# Altium schematic symbol library Theremin.SchLib: 50 symbols
Pins are listed as number, name and electrical type; pins without a type are passive.

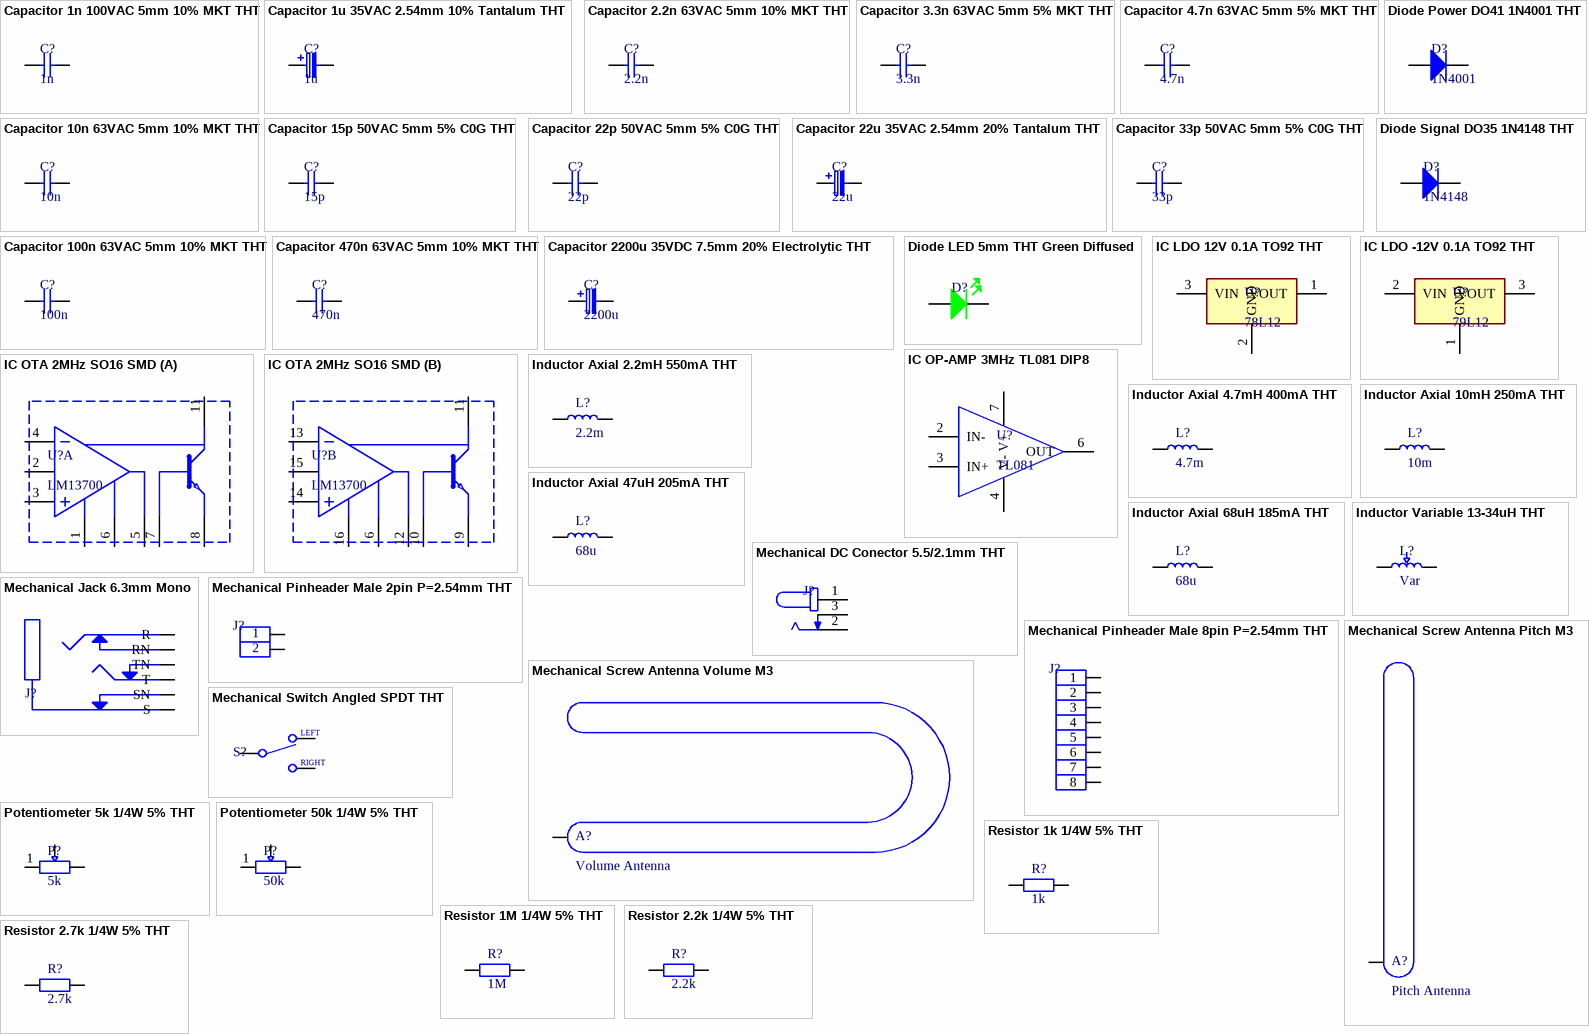
[diagram p0: symbols Capacitor 1n 100VAC 5mm 10% MKT THT to Resistor 2.7k 1/4W 5% THT]

## Capacitor 1n 100VAC 5mm 10% MKT THT
designator C?, comment 1n
Capacitor: polyester; 1nF; 63VAC; 100VDC; 5mm; ±10%; 7.2x2.5x6.5mm; MPN: R82EC1100DQ50K; Supplier: TME; Package: Capacitor 7.2x3.5x6.5mm; ComponentLink1Description: TME; ComponentLink1URL: https://www.tme.eu/pl/en/details/r82ec1100dq50k/tht-film-capacitors/kemet/; ComponentLink2Description: Datasheet; ComponentLink2URL: https://www.tme.eu/Document/8279ba60e40a85f8e396f800f0d02c79/Datasheet-R82EC1100DQ50K.pdf
footprint Capacitor 7.2x3.5x6.5mm
pins: 1, 2

## Capacitor 1u 35VAC 2.54mm 10% Tantalum THT
designator C?, comment 1u
Capacitor: tantalum; 1uF; 35VDC; THT; ±20%; -55÷85°C; 2.54mm; MPN: TC-1/35; Supplier: TME; Package: Capacitor Tantalum; ComponentLink1Description: TME; ComponentLink1URL: https://www.tme.eu/pl/en/details/tc-1_35/tht-tantalum-capacitors/sr-passives/; ComponentLink2Description: Datasheet; ComponentLink2URL: https://www.tme.eu/Document/bf051ef301f23e46aec8e57514aaa972/TC%20series.pdf
footprint Capacitor Tantalum 5.08mm
pins: 1, 2

## Capacitor 2.2n 63VAC 5mm 10% MKT THT
designator C?, comment 2.2n
Capacitor: polyester; 2.2nF; 63VAC; 100VDC; 5mm; ±10%; -55÷105°C; MPN: R82EC1220DQ50K; Supplier: TME; Package: Capacitor 7.2x3.5x6.5mm; ComponentLink1Description: TME; ComponentLink1URL: https://www.tme.eu/pl/en/details/mc5-2n2/tht-film-capacitors/kemet/r82ec1220dq50k/; ComponentLink2Description: Datasheet; ComponentLink2URL: https://www.tme.eu/Document/3a484b0e6621be75ef1153478ce25df0/R82EC1220DQ50K.pdf
footprint Capacitor 7.2x3.5x6.5mm
pins: 1, 2

## Capacitor 3.3n 63VAC 5mm 5% MKT THT
designator C?, comment 3.3n
Capacitor: polyester; 3.3nF; 63VAC; 100VDC; 5mm; ±5%; 7.2x2.5x6.5mm; MPN: R82EC1330DQ50J; Supplier: TME; Package: Capacitor 7.2x3.5x6.5mm; ComponentLink1Description: TME; ComponentLink1URL: https://www.tme.eu/pl/en/details/r82ec1330dq50j/tht-film-capacitors/kemet/; ComponentLink2Description: Datasheet; ComponentLink2URL: https://www.tme.eu/Document/4bebc873973008b4c7aff8be17e5b896/Datasheet-R82EC1330DQ50J.pdf
footprint Capacitor 7.2x3.5x6.5mm
pins: 1, 2

## Capacitor 4.7n 63VAC 5mm 5% MKT THT
designator C?, comment 4.7n
Capacitor: polyester; 4.7nF; 63VAC; 100VDC; 5mm; ±10%; -55÷105°C; MPN: R82EC1470DQ50K; Supplier: TME; Package: Capacitor 7.2x3.5x6.5mm; ComponentLink1Description: TME; ComponentLink1URL: https://www.tme.eu/pl/en/details/r82ec1470dq50k/tht-film-capacitors/kemet/; ComponentLink2Description: Datasheet; ComponentLink2URL: https://www.tme.eu/Document/9d3537aef72e8ccc93f83dd784419bb5/Datasheet-R82EC1470DQ50K.pdf
footprint Capacitor 7.2x3.5x6.5mm
pins: 1, 2

## Capacitor 10n 63VAC 5mm 10% MKT THT
designator C?, comment 10n
Capacitor: polyester; 0.01uF; 63VAC; 100VDC; 5mm; ±10%; -55÷125°C; MPN: B32529C1103K289; Supplier: TME; Package: Capacitor 7.2x3.5x6.5mm; ComponentLink1Description: TME; ComponentLink1URL: https://www.tme.eu/pl/en/details/b32529c1103k289/tht-film-capacitors/epcos/; ComponentLink2Description: Datasheet; ComponentLink2URL: https://www.tme.eu/Document/3f797a4cbbe02b90e3e2061c5fb4dda0/B32520_529.pdf
footprint Capacitor 7.2x3.5x6.5mm
pins: 1, 2

## Capacitor 15p 50VAC 5mm 5% C0G THT
designator C?, comment 15p
Capacitor: ceramic; 15pF; 50V; C0G (NP0); ±5%; THT; 5mm; MPN: RDE5C1H150J0M1H03A; Supplier: TME; Package: Capacitor Ceramic; ComponentLink1Description: TME; ComponentLink1URL: https://www.tme.eu/pl/en/details/rde5c1h150j0m1h03a/mlcc-tht-capacitors/murata/; ComponentLink2Description: Datasheet; ComponentLink2URL: https://www.tme.eu/Document/2ff66c99fa6fcc1468aea77d2cec1eda/RDE.pdf
footprint Capacitor Ceramic
pins: 1, 2

## Capacitor 22p 50VAC 5mm 5% C0G THT
designator C?, comment 22p
Capacitor: ceramic; 22pF; 50V; C0G (NP0); ±5%; THT; 5mm; MPN: CT40805N220J500F3R; Supplier: TME; Package: Capacitor Ceramic; ComponentLink1Description: TME; ComponentLink1URL: https://www.tme.eu/pl/en/details/cct-22p_50v/mlcc-tht-capacitors/sr-passives/ct40805n220j500f3r/; ComponentLink2Description: Datasheet; ComponentLink2URL: https://www.tme.eu/Document/fa2074634c56a5d5a400b3d58e933b6f/CCT.pdf
footprint Capacitor Ceramic
pins: 1, 2

## Capacitor 22u 35VAC 2.54mm 20% Tantalum THT
designator C?, comment 22u
Capacitor: tantalum; 22uF; 35VDC; THT; ±20%; -55÷85°C; 5.08mm; MPN: TC-22/35; Supplier: TME; Package: Capacitor Tantalum 5.08mm; ComponentLink1Description: TME; ComponentLink1URL: https://www.tme.eu/pl/en/details/tc-22_35/tht-tantalum-capacitors/sr-passives/; ComponentLink2Description: Datasheet; ComponentLink2URL: https://www.tme.eu/Document/bf051ef301f23e46aec8e57514aaa972/TC%20series.pdf
footprint Capacitor Tantalum 5.08mm
pins: 1, 2

## Capacitor 33p 50VAC 5mm 5% C0G THT
designator C?, comment 33p
Capacitor: ceramic; 33pF; 50V; C0G (NP0); ±5%; THT; 5mm; MPN: CT40805N330J500F3R; Supplier: TME; Package: Capacitor Ceramic; ComponentLink1Description: TME; ComponentLink1URL: https://www.tme.eu/pl/en/details/cct-33p_50v/mlcc-tht-capacitors/sr-passives/ct40805n330j500f3r/; ComponentLink2Description: Datasheet; ComponentLink2URL: https://www.tme.eu/Document/fa2074634c56a5d5a400b3d58e933b6f/CCT.pdf
footprint Capacitor Ceramic
pins: 1, 2

## Capacitor 100n 63VAC 5mm 10% MKT THT
designator C?, comment 100n
Capacitor: polyester; 100nF; 63VAC; 100VDC; 5mm; ±10%; -55÷100°C; MPN: MKS2D031001A00KSSD; Supplier: TME; Package: Capacitor 7.2x3.5x6.5mm; ComponentLink1Description: TME; ComponentLink1URL: https://www.tme.eu/pl/en/details/mks2-100n_100/tht-film-capacitors/wima/mks2d031001a00kssd/; ComponentLink2Description: Datasheet; ComponentLink2URL: https://www.tme.eu/Document/a1d7ff07b330f8f08de986bd168d8c92/WIMA_MKS_2.pdf
footprint Capacitor 7.2x3.5x6.5mm
pins: 1, 2

## Capacitor 470n 63VAC 5mm 10% MKT THT
designator C?, comment 470n
Capacitor: polyester; 470nF; 40VAC; 63VDC; 5mm; ±10%; 7.2x3.5x6.5mm; MPN: R82DC3470DQ60K; Supplier: TME; Package: Capacitor 7.2x3.5x6.5mm; ComponentLink1Description: TME; ComponentLink1URL: https://www.tme.eu/pl/en/details/r82dc3470dq60k/tht-film-capacitors/kemet/; ComponentLink2Description: Datasheet; ComponentLink2URL: https://www.tme.eu/Document/f9e14cfc4b971fc2817c26fd8f4fc9f4/Datasheet-R82DC3470DQ60K.pdf
footprint Capacitor 7.2x3.5x6.5mm
pins: 1, 2

## Capacitor 2200u 35VDC 7.5mm 20% Electrolytic THT
designator C?, comment 2200u
Capacitor: electrolytic; THT; 2200uF; 35VDC; Ø16x25mm; Pitch: 7.5mm; MPN: EWH1VM222L25OT; Supplier: TME; Package: Capacitor Electrolytic 16x25mm; ComponentLink1Description: TME; ComponentLink1URL: https://www.tme.eu/pl/en/details/ce-2200_35pht-y/tht-electrolytic-capacitors/aishi/ewh1vm222l25ot/; ComponentLink2Description: Datasheet; ComponentLink2URL: https://www.tme.eu/Document/d4ed5160d67f7d07e14b13c551409f2c/WH-series.pdf
footprint Capacitor Electrolytic 16x25mm
pins: 1, 2

## Diode LED 5mm THT Green Diffused
designator D?, comment Green  (value not drawn)
LED; 5mm; green; 150÷350mcd; 45°; 1.9÷2.4V; No.of term: 2; -40÷85°C; MPN: N0G02L47; Supplier: TME; Package: LED 5mm; ComponentLink1Description: TME; ComponentLink1URL: https://www.tme.eu/pl/en/details/n0g02l47/tht-leds-round/brightek-europe/; ComponentLink2Description: Datasheet; ComponentLink2URL: https://www.tme.eu/Document/d4dc47f49ec801a892b442bf96adea2e/N0G02L47.pdf
footprint LED 5mm
pins: 1, 2

## Diode Power DO41 1N4001 THT
designator D?, comment 1N4001
Diode: rectifying; THT; 50V; 1A; Ammo Pack; Ifsm: 30A; DO41; Supplier: TME; MPN: 1N4001; Package: DO-41; ComponentLink1Description: TME; ComponentLink1URL: https://www.tme.eu/pl/en/details/1n4001-cdi/tht-universal-diodes/cdil/1n4001/; ComponentLink2Description: Datasheet; ComponentLink2URL: https://www.tme.eu/Document/8a0c0b7e643996c9a2ecfdce46dc9310/1n4001_7.pdf
footprint DO41
pins: 1, 2

## Diode Signal DO35 1N4148 THT
designator D?, comment 1N4148
Diode: switching; THT; 100V; 0.2A; Ammo Pack; Ifsm: 4A; DO35; 500mW; Supplier: TME; MPN: 1N4148; Package: DO-35; ComponentLink1Description: TME; ComponentLink1URL: https://www.tme.eu/pl/en/details/1n4148-dio/tht-universal-diodes/diotec-semiconductor/1n4148/; ComponentLink2Description: Datasheet; ComponentLink2URL: https://www.tme.eu/Document/c6f6445616a0da67965224a113dd79b5/1n4148.pdf
footprint DO35
pins: 1, 2

## IC LDO 12V 0.1A TO92 THT
designator U?, comment 78L12
IC: voltage regulator; linear,fixed; 12V; 0.1A; TO92; THT; bulk; MPN: MC78L12ACPG; Supplier: TME; Package: TO-92; ComponentLink1Description: TME; ComponentLink1URL: https://www.tme.eu/pl/en/details/mc78l12acpg/unregulated-voltage-regulators/onsemi/; ComponentLink2Description: Datasheet; ComponentLink2URL: https://www.tme.eu/Document/a8a1241ebb79c81cfad04f65b61400f5/MC78LxxA_NCV78LxxA.PDF
footprint TO-92
pins: 1 VOUT, 2 GND, 3 VIN

## IC LDO -12V 0.1A TO92 THT
designator U?, comment 79L12
IC: voltage regulator; linear,fixed; -12V; 0.1A; TO92; THT; bulk; MPN: MC79L12ACPG; Supplier: TME; Package: TO-92; ComponentLink1Description: TME; ComponentLink1URL: https://www.tme.eu/pl/en/details/mc79l12acpg/unregulated-voltage-regulators/onsemi/; ComponentLink2Description: Datasheet; ComponentLink2URL: https://www.tme.eu/Document/da4ea255632af3160227aa919f13c59f/MC79L00A.PDF
footprint TO-92
pins: 1 GND, 2 VIN, 3 VOUT

## IC OP-AMP 3MHz TL081 DIP8
designator U?, comment TL081
IC: operational amplifier; 3MHz; Ch: 1; DIP8; ±5÷15VDC; tube; MPN: TL081IP; Supplier: TME; Package: DIP-8; ComponentLink1Description: TME; ComponentLink1URL: https://www.tme.eu/pl/en/details/tl081ip/tht-operational-amplifiers/texas-instruments/; ComponentLink2Description: Datasheet; ComponentLink2URL: https://www.st.com/resource/en/datasheet/tl081.pdf
footprint DIP-8
pins: 2 IN-, 3 IN+, 4 V-, 6 OUT, 7 V+

## IC OTA 2MHz SO16 SMD
designator U?, comment LM13700
IC: operational amplifier; 2MHz; Ch: 2; SO16;; MPN: LM13700MX/NOPB; Supplier: TME; Package: SO-16; ComponentLink1Description: TME; ComponentLink1URL: https://www.tme.eu/pl/en/details/lm13700mx_nopb/smd-operational-amplifiers/texas-instruments/; ComponentLink2Description: Datasheet; ComponentLink2URL: https://www.ti.com/lit/gpn/lm13700
footprint SO-16
part A pins: 1 BIAS AMP, 2 BIAS DIODE, 3 +, 4 -, 5 OUTPUT, 6 V-, 7 BUFFER IN, 8 BUFFER OUT, 11 V+
part B pins: 6 V-, 9 BUFFER OUT, 10 BUFFER IN, 11 V+, 12 OUTPUT, 13 -, 14 +, 15 BIAS DIODE, 16 BIAS AMP

## Inductor Axial 2.2mH 550mA THT
designator L?, comment 2.2m
Inductor: wire; THT; 2.2mH; Ioper: 550mA; 3.5Ω; ±10%; Ø11.5x11.5mm; MPN: COIL1010-2.2; Supplier: TME; Package: Inductor 11.5x11.5; ComponentLink1Description: TME; ComponentLink1URL: https://www.tme.eu/pl/en/details/coil1010-2.2/vertical-inductors/ferrocore/; ComponentLink2Description: Datasheet; ComponentLink2URL: https://www.tme.eu/Document/6a7075a9f3d9071c6798a7b1b2ed519f/COIL1010-2.2.pdf
footprint Inductor 11.5x11.5
pins: 1, 2

## Inductor Axial 4.7mH 400mA THT
designator L?, comment 4.7m
Inductor: wire; THT; 4.7mH; Ioper: 400mA; 6Ω; ±10%; Ø11.5x11.5mm; MPN: COIL1010-4.7; Supplier: TME; Package: Inductor 11.5x11.5; ComponentLink1Description: TME; ComponentLink1URL: https://www.tme.eu/pl/en/details/coil1010-4.7/vertical-inductors/ferrocore/; ComponentLink2Description: Datasheet; ComponentLink2URL: https://www.tme.eu/Document/ea6622b2319f67b3f9813ba7d6b98bb4/COIL1010-4.7.pdf
footprint Inductor 11.5x11.5
pins: 1, 2

## Inductor Axial 10mH 250mA THT
designator L?, comment 10m
Inductor: wire; THT; 10mH; Ioper: 250mA; 14.6Ω; ±10%; Ø11.5x11.5mm; MPN: COIL1010-10; Supplier: TME; Package: Inductor 11.5x11.5; ComponentLink1Description: TME; ComponentLink1URL: https://www.tme.eu/pl/en/details/coil1010-10/vertical-inductors/ferrocore/; ComponentLink2Description: Datasheet; ComponentLink2URL: https://www.tme.eu/Document/a3ef0c8e49e99149fdccea630d52d5e9/COIL1010-10.pdf
footprint Inductor 11.5x11.5
pins: 1, 2

## Inductor Axial 47uH 205mA THT
designator L?, comment 68u
Inductor: axial; THT; 47uH; 205mA; 2.3Ω; Ø3x8mm; MPN: DLA47-N; Supplier: TME; Package: Inductor Axial; ComponentLink1Description: TME; ComponentLink1URL: https://www.tme.eu/pl/en/details/dla47-n/axial-inductors/ferrocore/; ComponentLink2Description: Datasheet; ComponentLink2URL: https://www.tme.eu/Document/9d377c1aa3fb18bfc9d945d5bc61a17d/DLA_a.pdf
footprint Inductor Axial
pins: 1, 2

## Inductor Axial 68uH 185mA THT
designator L?, comment 68u
Inductor: axial; THT; 68uH; 185mA; 3.2Ω; Ø3x8mm; MPN: DLA68-N; Supplier: TME; Package: Inductor Axial; ComponentLink1Description: TME; ComponentLink1URL: https://www.tme.eu/pl/en/details/dla68-n/axial-inductors/ferrocore/; ComponentLink2Description: Datasheet; ComponentLink2URL: https://www.tme.eu/Document/9d377c1aa3fb18bfc9d945d5bc61a17d/DLA_a.pdf
footprint Inductor Axial
pins: 1, 2

## Inductor Variable 13-34uH THT
designator L?, comment Var
10pcs 50T 13uh-34uH Adjustable High-Frequency Ferrite Core Inductor Adjustable Tools; Supplier: Aliexpress; MPN: 50T 13uh-34uH; Package: Inductor Variable; ComponentLink1Description: TME; ComponentLink1URL: https://www.aliexpress.com/item/1005006270702263.html?spm=a2g0o.detail.pcDetailTopMoreOtherSeller.2.1643C9ZPC9ZPRj&gps-id=pcDetailTopMoreOtherSeller&scm=1007.40050.354490.0&scm_id=1007.40050.354490.0&scm-url=1007.40050.354490.0&pvid=d581bdb9-6c7a-4b34-acbb-bb23191a4599&_t=gps-id%3ApcDetailTopMoreOtherSeller%2Cscm-url%3A1007.40050.354490.0%2Cpvid%3Ad581bdb9-6c7a-4b34-acbb-bb23191a4599%2Ctpp_buckets%3A668%232846%238114%231999&pdp_npi=4%40dis%21PLN%2114.92%2114.92%21%21%213.63%213.63%21%402103835c17200115452615440e62f8%2112000036547480925%21rec%21PL%212048866767%21&utparam-url=scene%3ApcDetailTopMoreOtherSeller%7Cquery_from%3A; ComponentLink2Description: Datasheet; ComponentLink2URL: https://www.aliexpress.com/item/1005003388187155.html?spm=a2g0o.detail.pcDetailBottomMoreOtherSeller.18.5314Fwk8Fwk8NR&gps-id=pcDetailBottomMoreOtherSeller&scm=1007.40050.354490.0&scm_id=1007.40050.354490.0&scm-url=1007.40050.354490.0&pvid=505bda8a-ca01-4575-9f04-1e1694ae9eac&_t=gps-id:pcDetailBottomMoreOtherSeller,scm-url:1007.40050.354490.0,pvid:505bda8a-ca01-4575-9f04-1e1694ae9eac,tpp_buckets:668%232846%238109%231935&pdp_npi=4%40dis%21PLN%2110.65%2110.64%21%21%2118.93%2118.92%21%402101fb1417200120873824499ee372%2112000031929978882%21rec%21PL%212048866767%21&utparam-url=scene%3ApcDetailBottomMoreOtherSeller%7Cquery_from%3A
footprint Inductor Variable
pins: 1, 2

## Mechanical DC Conector 5.5/2.1mm THT
designator J?, comment PC-GK2.1  (value not drawn)
Socket; DC supply; male; 5.5/2.1mm; 5.5mm; 2.1mm; THT; angled 90°; ComponentLink1Description: TME; ComponentLink1URL: https://www.tme.eu/pl/en/details/pc-gk2.1/dc-power-connectors/ninigi/; Supplier: TME; MPN: PC-GK2.1; Package: DC Supply THT; ComponentLink2Description: Datasheet; ComponentLink2URL: https://www.tme.eu/Document/78afd4fb8a41e4211137cd818ea9e93d/PC-GK21.jpg
footprint DC Supply THT
pins: 1, 2, 3

## Mechanical Jack 6.3mm Mono
designator J?, comment JC-211  (value not drawn)
Socket; Jack 6,3mm; female; mono; ways: 2; for panel mounting; THT; ComponentLink1Description: TME; ComponentLink1URL: https://www.tme.eu/pl/en/details/jc-211/jack-connectors/ninigi/; Supplier: TME; MPN: JC-211; Package: Jack 6.3mm PCB; ComponentLink2Description: Datasheet; ComponentLink2URL: https://www.tme.eu/html/EN/connector-jack-6-3mm-socket/ramka_770_EN_pelny.html
footprint Jack 6.3mm PCB
pins: 1 S, 2 R, 3 T, 4 TN, 5 RN, 6 SN

## Mechanical Pinheader Male 2pin P=2.54mm THT
designator J?, comment 2 PIN  (value not drawn)
Pin header; pin strips; BERGSTIK; male; PIN: 2; straight; 2.54mm; MPN: 77311-101-02LF; ComponentLink1Description: TME; ComponentLink1URL: https://www.tme.eu/pl/en/details/77311-101-02lf/pin-headers/amphenol-communications-solutions/; Supplier: TME; Package: Goldpin 2P; ComponentLink2Description: Datasheet; ComponentLink2URL: https://www.tme.eu/Document/cf95c6ed476410c00a081c8ff424e335/77311-101-01LF.pdf
footprint Goldpin 2P
pins: 1, 2

## Mechanical Pinheader Male 8pin P=2.54mm THT
designator J?, comment 8 PIN  (value not drawn)
Pin header; pin strips; male; PIN: 8; straight; 2.54mm; THT; 1x8; MPN: DS1021-1*8SF11-B; ComponentLink1Description: TME; ComponentLink1URL: https://www.tme.eu/pl/en/details/zl201-08g/pin-headers/connfly/ds1021-1-8sf11-b/; Supplier: TME; Package: Goldpin 8P; ComponentLink2Description: Datasheet; ComponentLink2URL: https://www.tme.eu/Document/cc301e58a5da78cb543a94b5a5b7f06a/DS1021.pdf
footprint Goldpin 8P
pins: 1, 2, 3, 4, 5, 6, 7, 8

## Mechanical Screw Antenna Pitch M3
designator A?, comment Pitch Antenna
Supplier: *; MPN: *; Package: *; ComponentLink1Description: TME; ComponentLink1URL: *; ComponentLink2Description: Datasheet; ComponentLink2URL: *
footprint HOLE M3
pins: 1

## Mechanical Screw Antenna Volume M3
designator A?, comment Volume Antenna
Supplier: *; MPN: *; Package: *; ComponentLink1Description: TME; ComponentLink1URL: *; ComponentLink2Description: Datasheet; ComponentLink2URL: *
footprint HOLE M3
pins: 1

## Mechanical Switch Angled SPDT THT
designator S?, comment ON-ON  (value not drawn)
Switch: toggle; Pos: 2; SPDT; ON-ON; 0.4A/28VDC; -30÷85°C; 20mΩ; MPN: SKS06LP; ComponentLink1Description: TME; ComponentLink1URL: https://www.tme.eu/pl/en/details/sks06lp/toggle-switches/salecom-electronics/; Supplier: TME; Package: Switch Angled; ComponentLink2Description: Datasheet; ComponentLink2URL: https://www.tme.eu/html/EN/toggle-switches-sks-series/ramka_1363_EN_pelny.html
footprint Switch Angled
pins: 1, 2, 3
text: LEFT; RIGHT

## Potentiometer 5k 1/4W 5% THT
designator P?, comment 5k
Potentiometer: shaft; single turn; 5kΩ; 125mW; ±20%; THT; 6mm; metal; MPN: R16148D-1A-2-B5K; Supplier: TME; Package: Potentiometer Shaft; ComponentLink1Description: TME; ComponentLink1URL: https://www.tme.eu/pl/en/details/r16148d-1a-2-b5k/carbon-single-turn-potentiometers/sr-passives/; ComponentLink2Description: Datasheet; ComponentLink2URL: https://www.tme.eu/html/EN/sr-passives-carbon-potentiometers-with-6-mm-shaft/ramka_16064_EN_pelny.html
footprint Potentiometer Shaft
pins: 1, 2, 3

## Potentiometer 50k 1/4W 5% THT
designator P?, comment 50k
Potentiometer: shaft; single turn; 50kΩ; 125mW; ±20%; THT; 6mm; mono; MPN: R16148D-1A-2-B50K; Supplier: TME; Package: Potentiometer Shaft; ComponentLink1Description: TME; ComponentLink1URL: https://www.tme.eu/pl/en/details/r16148d-1a-2-b50k/carbon-single-turn-potentiometers/sr-passives/; ComponentLink2Description: Datasheet; ComponentLink2URL: https://www.tme.eu/html/EN/sr-passives-carbon-potentiometers-with-6-mm-shaft/ramka_16064_EN_pelny.html
footprint Potentiometer Shaft
pins: 1, 2, 3

## Resistor 1k 1/4W 5% THT
designator R?, comment 1k
Resistor: carbon film; THT; 1kΩ; 0.25W; ±5%; Ø2.3x6mm; axial; MPN: CF1/4W-1K; Supplier: TME; Package: Resistor 1/4W; ComponentLink1Description: TME; ComponentLink1URL: https://www.tme.eu/pl/en/details/cf1_4w-1k/tht-resistors/sr-passives/; ComponentLink2Description: Datasheet; ComponentLink2URL: https://www.tme.eu/Document/3b68a2c15adddc45017f1757c33e8b45/cf_resistor.pdf
footprint Resistor 1/4W
pins: 1, 2

## Resistor 1M 1/4W 5% THT
designator R?, comment 1M
Resistor: carbon film; THT; 1MΩ; 0.25W; ±5%; Ø2.3x6mm; axial; MPN: CF1/4W-1M; Supplier: TME; Package: Resistor 1/4W; ComponentLink1Description: TME; ComponentLink1URL: https://www.tme.eu/pl/en/details/cf1_4w-1m/tht-resistors/sr-passives/; ComponentLink2Description: Datasheet; ComponentLink2URL: https://www.tme.eu/Document/3b68a2c15adddc45017f1757c33e8b45/cf_resistor.pdf
footprint Resistor 1/4W
pins: 1, 2

## Resistor 2.2k 1/4W 5% THT
designator R?, comment 2.2k
Resistor: carbon film; THT; 2.2kΩ; 0.25W; ±5%; Ø2.3x6mm; axial; MPN: CF1/4W-2K2; Supplier: TME; Package: Resistor 1/4W; ComponentLink1Description: TME; ComponentLink1URL: https://www.tme.eu/pl/en/details/cf1_4w-2k2/tht-resistors/sr-passives/; ComponentLink2Description: Datasheet; ComponentLink2URL: https://www.tme.eu/Document/3b68a2c15adddc45017f1757c33e8b45/cf_resistor.pdf
footprint Resistor 1/4W
pins: 1, 2

## Resistor 2.7k 1/4W 5% THT
designator R?, comment 2.7k
Resistor: carbon film; THT; 2.7kΩ; 0.25W; ±5%; Ø2.3x6mm; axial; MPN: CF1/4W-2K7; Supplier: TME; Package: Resistor 1/4W; ComponentLink1Description: TME; ComponentLink1URL: https://www.tme.eu/pl/en/details/cf1_4w-2k7/tht-resistors/sr-passives/; ComponentLink2Description: Datasheet; ComponentLink2URL: https://www.tme.eu/Document/3b68a2c15adddc45017f1757c33e8b45/cf_resistor.pdf
footprint Resistor 1/4W
pins: 1, 2

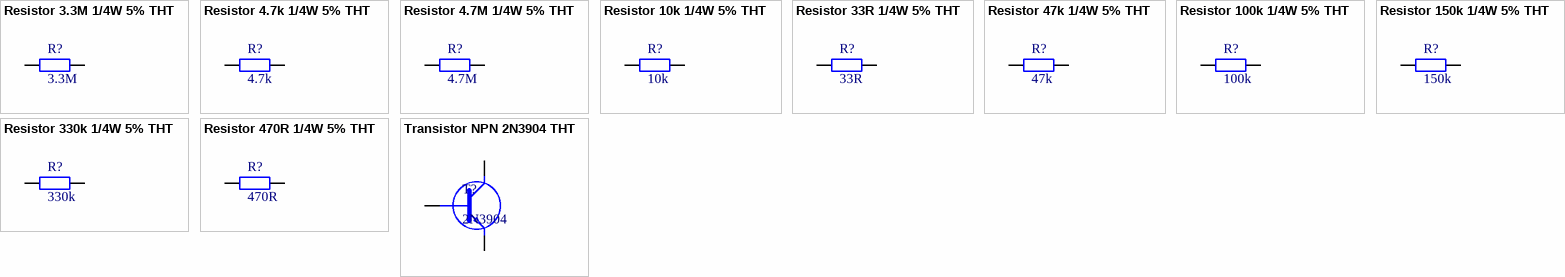
[diagram p1: symbols Resistor 3.3M 1/4W 5% THT to Transistor NPN 2N3904 THT]

## Resistor 3.3M 1/4W 5% THT
designator R?, comment 3.3M
Resistor: carbon film; THT; 3.3MΩ; 0.25W; ±5%; Ø2.3x6mm; axial; MPN: CF1/4W-3M3; Supplier: TME; Package: Resistor 1/4W; ComponentLink1Description: TME; ComponentLink1URL: https://www.tme.eu/pl/en/details/cf1_4w-3m3/tht-resistors/sr-passives/; ComponentLink2Description: Datasheet; ComponentLink2URL: https://www.tme.eu/Document/3b68a2c15adddc45017f1757c33e8b45/cf_resistor.pdf
footprint Resistor 1/4W
pins: 1, 2

## Resistor 4.7k 1/4W 5% THT
designator R?, comment 4.7k
Resistor: carbon film; THT; 4.7kΩ; 0.25W; ±5%; Ø2.3x6mm; axial; MPN: CF1/4W-4K7; Supplier: TME; Package: Resistor 1/4W; ComponentLink1Description: TME; ComponentLink1URL: https://www.tme.eu/pl/en/details/cf1_4w-4k7/tht-resistors/sr-passives/; ComponentLink2Description: Datasheet; ComponentLink2URL: https://www.tme.eu/Document/3b68a2c15adddc45017f1757c33e8b45/cf_resistor.pdf
footprint Resistor 1/4W
pins: 1, 2

## Resistor 4.7M 1/4W 5% THT
designator R?, comment 4.7M
Resistor: carbon film; THT; 4.7MΩ; 0.25W; ±5%; Ø2.3x6mm; axial; MPN: CF1/4W-4M7; Supplier: TME; Package: Resistor 1/4W; ComponentLink1Description: TME; ComponentLink1URL: https://www.tme.eu/pl/en/details/cf1_4w-4m7/tht-resistors/sr-passives/; ComponentLink2Description: Datasheet; ComponentLink2URL: https://www.tme.eu/Document/3b68a2c15adddc45017f1757c33e8b45/cf_resistor.pdf
footprint Resistor 1/4W
pins: 1, 2

## Resistor 10k 1/4W 5% THT
designator R?, comment 10k
Resistor: carbon film; THT; 10kΩ; 0.25W; ±5%; Ø2.3x6mm; axial; MPN: CF1/4W-10K; Supplier: TME; Package: Resistor 1/4W; ComponentLink1Description: TME; ComponentLink1URL: https://www.tme.eu/pl/en/details/cf1_4w-10k/tht-resistors/sr-passives/; ComponentLink2Description: Datasheet; ComponentLink2URL: https://www.tme.eu/Document/3b68a2c15adddc45017f1757c33e8b45/cf_resistor.pdf
footprint Resistor 1/4W
pins: 1, 2

## Resistor 33R 1/4W 5% THT
designator R?, comment 33R
Resistor: carbon film; THT; 33Ω; 0.25W; ±5%; Ø2.3x6mm; axial; MPN: CF1/4W-33R; Supplier: TME; Package: Resistor 1/4W; ComponentLink1Description: TME; ComponentLink1URL: https://www.tme.eu/pl/en/details/cf1_4w-33r/tht-resistors/sr-passives/; ComponentLink2Description: Datasheet; ComponentLink2URL: https://www.tme.eu/Document/3b68a2c15adddc45017f1757c33e8b45/cf_resistor.pdf
footprint Resistor 1/4W
pins: 1, 2

## Resistor 47k 1/4W 5% THT
designator R?, comment 47k
Resistor: carbon film; THT; 47kΩ; 0.25W; ±5%; Ø2.3x6mm; axial; MPN: CF1/4W-47K; Supplier: TME; Package: Resistor 1/4W; ComponentLink1Description: TME; ComponentLink1URL: https://www.tme.eu/pl/en/details/cf1_4w-47k/tht-resistors/sr-passives/; ComponentLink2Description: Datasheet; ComponentLink2URL: https://www.tme.eu/Document/3b68a2c15adddc45017f1757c33e8b45/cf_resistor.pdf
footprint Resistor 1/4W
pins: 1, 2

## Resistor 100k 1/4W 5% THT
designator R?, comment 100k
Resistor: carbon film; THT; 100kΩ; 0.25W; ±5%; Ø2.3x6mm; axial; MPN: CF1/4W-100K; Supplier: TME; Package: Resistor 1/4W; ComponentLink1Description: TME; ComponentLink1URL: https://www.tme.eu/pl/en/details/cf1_4w-100k/tht-resistors/sr-passives/; ComponentLink2Description: Datasheet; ComponentLink2URL: https://www.tme.eu/Document/3b68a2c15adddc45017f1757c33e8b45/cf_resistor.pdf
footprint Resistor 1/4W
pins: 1, 2

## Resistor 150k 1/4W 5% THT
designator R?, comment 150k
Resistor: carbon film; THT; 150kΩ; 0.25W; ±5%; Ø2.3x6mm; axial; MPN: CF1/4W-150K; Supplier: TME; Package: Resistor 1/4W; ComponentLink1Description: TME; ComponentLink1URL: https://www.tme.eu/pl/en/details/cf1_4w-150k/tht-resistors/sr-passives/; ComponentLink2Description: Datasheet; ComponentLink2URL: https://www.tme.eu/Document/3b68a2c15adddc45017f1757c33e8b45/cf_resistor.pdf
footprint Resistor 1/4W
pins: 1, 2

## Resistor 330k 1/4W 5% THT
designator R?, comment 330k
Resistor: carbon film; THT; 330kΩ; 0.25W; ±5%; Ø2.3x6mm; axial; MPN: CF1/4W-330K; Supplier: TME; Package: Resistor 1/4W; ComponentLink1Description: TME; ComponentLink1URL: https://www.tme.eu/pl/en/details/cf1_4w-330k/tht-resistors/sr-passives/; ComponentLink2Description: Datasheet; ComponentLink2URL: https://www.tme.eu/Document/3b68a2c15adddc45017f1757c33e8b45/cf_resistor.pdf
footprint Resistor 1/4W
pins: 1, 2

## Resistor 470R 1/4W 5% THT
designator R?, comment 470R
Resistor: carbon film; THT; 470Ω; 0.25W; ±5%; Ø2.3x6mm; axial; MPN: CF1/4W-470R; Supplier: TME; Package: Resistor 1/4W; ComponentLink1Description: TME; ComponentLink1URL: https://www.tme.eu/pl/en/details/cf1_4w-470r/tht-resistors/sr-passives/; ComponentLink2Description: Datasheet; ComponentLink2URL: https://www.tme.eu/Document/3b68a2c15adddc45017f1757c33e8b45/cf_resistor.pdf
footprint Resistor 1/4W
pins: 1, 2

## Transistor NPN 2N3904 THT
designator T?, comment 2N3904
Transistor: NPN; bipolar; 40V; 0.2A; 625mW; TO92; Supplier: TME; MPN: 2N3904; Package: TO-92; ComponentLink1Description: TME; ComponentLink1URL: https://www.tme.eu/pl/en/details/2n3904-dio/npn-tht-transistors/diotec-semiconductor/2n3904/; ComponentLink2Description: Datasheet; ComponentLink2URL: https://www.tme.eu/Document/8a561b8ad2a957afc05007bfcf57ac08/2n3904.pdf
footprint TO-92
pins: 1 E, 2 B, 3 C